# EAGLE library part MCP4728 (library microBackpackLib)
MCP4728-E/UN 12-bit DAC chip on MSOP-10 package. Digital to Analog conversion, high speed
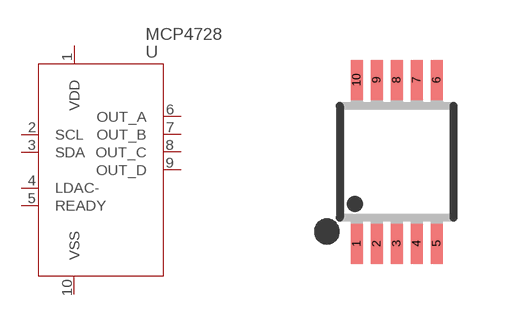
[diagram p1: symbol with the pads of MSOP10; footprint MSOP10]

Designator prefix -

## MCP4728  [MSOP10]
1  VDD
2  SCL
3  SDA
4  LDAC-
5  READY
6  OUT_A
7  OUT_B
8  OUT_C
9  OUT_D
10  VSS

## Footprint MSOP10 (pad centres in mm)
10 Lead Platic MSOP Source: http://www.linear.com .. LT1996
smd 0.3 x 1: 1 -1,-2.05; 2 -0.5,-2.05; 3 0,-2.05; 4 0.5,-2.05; 5 1,-2.05; 6 1,2.05; 7 0.5,2.05; 8 0,2.05; 9 -0.5,2.05; 10 -1,2.05